# EAGLE library part RA4 (library Passive)
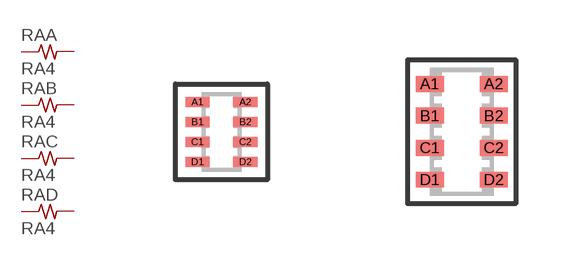
[diagram p0: symbol with the pads of 1005-A4; footprints 1005-A4, 1608-A4]

Designator prefix RA; gates A=RESISTOR B=RESISTOR C=RESISTOR D=RESISTOR

## RA4-1005  [1005-A4]
A1  A:1  pas
A2  A:2  pas
B1  B:1  pas
B2  B:2  pas
C1  C:1  pas
C2  C:2  pas
D1  D:1  pas
D2  D:2  pas

## RA4-1608  [1608-A4]
Pads as for 1005-A4

## Footprint 1005-A4 (pad centres in mm)
smd 0.6 x 0.25: A1 -0.6,0.75; A2 0.6,0.75; B1 -0.6,0.25; B2 0.6,0.25; C1 -0.6,-0.25; C2 0.6,-0.25; D1 -0.6,-0.75; D2 0.6,-0.75

## Footprint 1608-A4 (pad centres in mm)
smd 0.7 x 0.4: A1 -0.8,1.2; A2 0.8,1.2; B1 -0.8,0.4; B2 0.8,0.4; C1 -0.8,-0.4; C2 0.8,-0.4; D1 -0.8,-1.2; D2 0.8,-1.2